# EAGLE library part SCREW-TERMINAL_8_0.100 (library headers)
8x 0.100 in screw terminal block
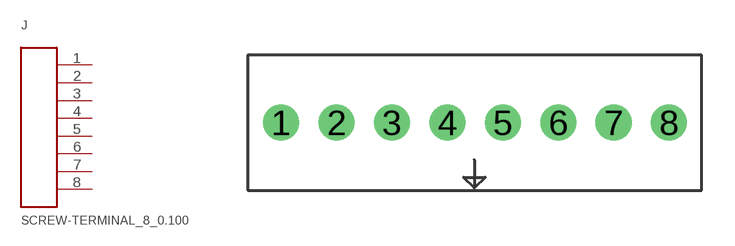
[diagram p3: symbol with the pads of CONN_BLOCK_8; footprint CONN_BLOCK_8]

Designator prefix J

## SCREW-TERMINAL_8_0.100 (DIGIKEY: 277-1279-ND; MOUSER: 651-1725711; NEWARK: 71C4111)  [CONN_BLOCK_8]
1  1
2  2
3  3
4  4
5  5
6  6
7  7
8  8

## Footprint CONN_BLOCK_8 (pad centres in mm)
drill 1.1: 1 -8.89,0; 2 -6.35,0; 3 -3.81,0; 4 -1.27,0; 5 1.27,0; 6 3.81,0; 7 6.35,0; 8 8.89,0